# Altium schematic symbol library Audio-Streamer.SchLib: 67 symbols
Pins are listed as number, name and electrical type; pins without a type are passive.

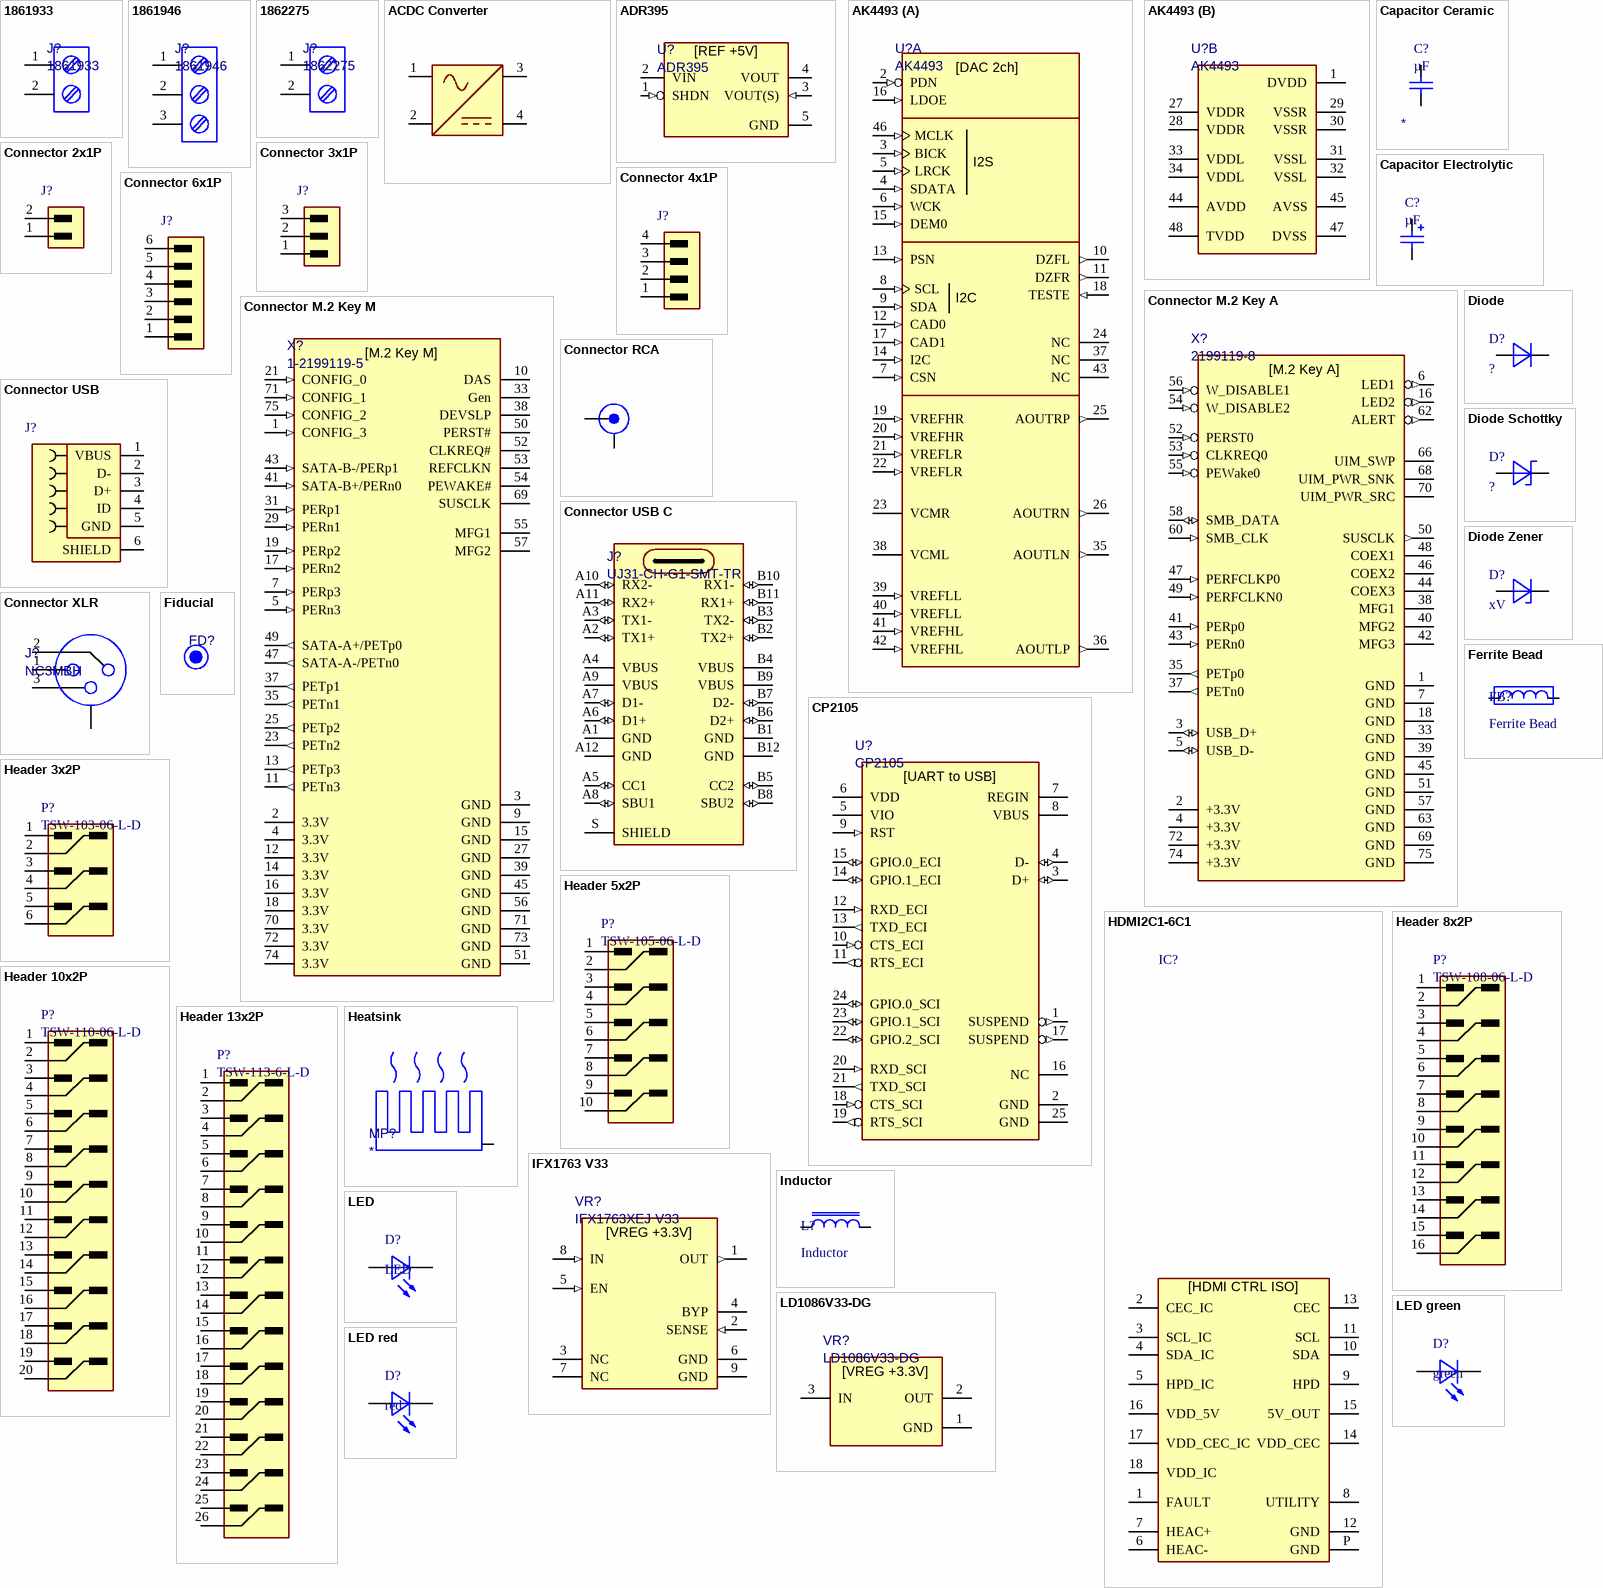
[diagram p0: symbols 1861933 to LED red]

## 1861933
designator J?
Screw Terminal, 2 Position, 5mm Spacing
footprint 1861933 (Phoenix Contacts 2 Pol)
pins: 1, 2

## 1861946
designator J?
Screw Terminal, 3 Position, 5mm Spacing
footprint 1861946 (Phoenix Contacts 3 Pol)
pins: 1, 2, 3

## 1862275
designator J?
Screw Terminal, 2 Position, 5mm Spacing
footprint 1862275 (Phoenix Contacts 2 Pol - 5mm)
pins: 1, 2

## ACDC Converter
designator U?
AC/DC Converter (100VAC - 240VAC to 5VDC)
footprint IRM-606x (AC/DC Module Meanwell)
pins: 1 AC (power), 2 AC (power), 3 V+ (power), 4 GND (power)

## ADR395
designator U?
Voltage Reference; Manufacturer Part No.: ADR395BUJZ-REEL7
footprint SOT-23-5
pins: 1 SHDN (in), 2 VIN (power), 3 VOUT(S) (in), 4 VOUT (power), 5 GND (power)
text: [REF +5V]

## AK4493
designator U?
32-Bit 2ch Audio DAC
footprint LQFP48
part A pins: 2 PDN (in), 3 BICK (in), 4 SDATA (in), 5 LRCK (in), 6 WCK (in), 7 CSN (in), 8 SCL (in), 9 SDA (in), 10 DZFL (out), 11 DZFR (out), 12 CAD0 (in), 13 PSN (in), 14 I2C (in), 15 DEM0 (in), 16 LDOE (in), 17 CAD1 (in), 18 TESTE (in), 19 VREFHR (in), 20 VREFHR (in), 21 VREFLR (in), 22 VREFLR (in), 23 VCMR (power), 24 NC, 25 AOUTRP (out), 26 AOUTRN (out), 35 AOUTLN (out), 36 AOUTLP (out), 37 NC, 38 VCML (power), 39 VREFLL (in), 40 VREFLL (in), 41 VREFHL (in), 42 VREFHL (in), 43 NC, 46 MCLK (in)
part B pins: 1 DVDD (power), 27 VDDR (power), 28 VDDR (power), 29 VSSR (power), 30 VSSR (power), 31 VSSL (power), 32 VSSL (power), 33 VDDL, 34 VDDL, 44 AVDD (power), 45 AVSS (power), 47 DVSS (power), 48 TVDD (power)
part A text: [DAC 2ch]; I2S

## Capacitor Ceramic
designator C?, comment µF
Ceramic Capacitor; Voltage: *
footprint SMD0402CAP
footprint SMD0603CAP
footprint SMD0805CAP
footprint SMD1206CAP
footprint SMD2010CAP
pins: 1, 2 q

## Capacitor Electrolytic
designator C?, comment µF
Elektrolytic Capacitor; Voltage: *
footprint CAP-5-11.5-2
footprint CAP-6.3-5.5-2.5
footprint CAP-6.3-11.2-2.5
footprint CAP-8-11.5-3.5
footprint CAP-12.5-20-5
footprint CAP-12.5-25-5
footprint CAP-25-50-12.5
pins: M q, P

## Connector 2x1P
designator J?, comment 2x1P  (value not drawn)
Connector 2x1P
footprint S02B-PASK-2 (JST PA plug right angle)
footprint B2B-PH-K-S (JST PH plug)
pins: 1, 2

## Connector 3x1P
designator J?, comment 3x1P  (value not drawn)
Connector 3x1P
footprint S03B-PASK-2 (JST PA plug right angle)
footprint B3B-PH-K-S (JST PH plug)
pins: 1, 2, 3

## Connector 4x1P
designator J?, comment 4x1P  (value not drawn)
Connector 4x1P
footprint S04B-PASK-2 (JST PA plug right angle)
footprint B4B-PH-K-S (JST PH plug)
pins: 1, 2, 3, 4

## Connector 6x1P
designator J?, comment 6x1P  (value not drawn)
Connector 6x1P
footprint S06B-PASK-2 (JST PA plug right angle)
footprint B6B-PH-K-S (JST PH plug)
pins: 1, 2, 3, 4, 5, 6

## Connector M.2 Key A
designator X?, comment 2199119-8
Connector M.2 Key A; Manufacturer Part No.: 2199119-8
footprint 2199119-8-KEY-A-2230 (M-2 Key A)
pins: 1 GND (power), 2 +3.3V (power), 3 USB_D+ (io), 4 +3.3V (power), 5 USB_D- (io), 6 LED1 (out), 7 GND (power), 16 LED2 (out), 18 GND (power), 33 GND (power), 35 PETp0 (out), 37 PETn0 (out), 38 MFG1, 39 GND (power), 40 MFG2, 41 PERp0 (in), 42 MFG3, 43 PERn0 (in), 44 COEX3, 45 GND (power), 46 COEX2, 47 PERFCLKP0 (in), 48 COEX1, 49 PERFCLKN0 (in), 50 SUSCLK (out), 51 GND (power), 52 PERST0 (in), 53 CLKREQ0 (in), 54 W_DISABLE2 (in), 55 PEWake0 (in), 56 W_DISABLE1 (in), 57 GND (power), 58 SMB_DATA (io), 60 SMB_CLK (in), 62 ALERT (out), 63 GND (power), 66 UIM_SWP, 68 UIM_PWR_SNK, 69 GND (power), 70 UIM_PWR_SRC, 72 +3.3V (power), 74 +3.3V (power), 75 GND (power)
text: [M.2 Key A]

## Connector M.2 Key M
designator X?, comment 1-2199119-5
Connector M.2 Key M; Manufacturer Part No.: 1-2199119-5
footprint 1-2199119-5-Key-M-2280 (M.2 M Key)
pins: 1 CONFIG_3 (in), 2 3.3V (power), 3 GND (power), 4 3.3V (power), 5 PERn3 (in), 7 PERp3 (in), 9 GND (power), 10 DAS, 11 PETn3 (out), 12 3.3V (power), 13 PETp3 (out), 14 3.3V (power), 15 GND (power), 16 3.3V (power), 17 PERn2 (in), 18 3.3V (power), 19 PERp2 (in), 21 CONFIG_0 (in), 23 PETn2 (out), 25 PETp2 (out), 27 GND (power), 29 PERn1 (in), 31 PERp1 (in), 33 Gen, 35 PETn1 (out), 37 PETp1 (out), 38 DEVSLP, 39 GND (power), 41 SATA-B+/PERn0 (in), 43 SATA-B-/PERp1 (in), 45 GND (power), 47 SATA-A-/PETn0 (out), 49 SATA-A+/PETp0 (out), 50 PERST#, 51 GND (power), 52 CLKREQ#, 53 REFCLKN, 54 PEWAKE#, 55 MFG1, 56 GND (power), 57 MFG2, 69 SUSCLK, 70 3.3V (power), 71 GND (power), 71 CONFIG_1 (in), 72 3.3V (power), 73 GND (power), 74 3.3V (power), 75 CONFIG_2 (in)
text: [M.2 Key M]

## Connector RCA
designator J?, comment ?
RCA Connector
footprint RCA-Plug (43-028/29 RCA Plug)
pins: 1, 2

## Connector USB
designator J?, comment 1981568-1  (value not drawn)
USB Micro Connector; Manufacturer Part No.: 1981568-1
footprint HEADER_USB
pins: 1 VBUS, 2 D-, 3 D+, 4 ID, 5 GND, 6 SHIELD

## Connector USB C
designator J?, comment UJ31-CH-G1-SMT-TR
USB Type C Jack; Manufacturer Part No.: UJ31-CH-G1-SMT-TR
footprint UJ31-CH-G1-SMT-TR (USB Type C Jack)
pins: A1 GND (power), A2 TX1+ (io), A3 TX1- (io), A4 VBUS (power), A5 CC1 (io), A6 D1+ (io), A7 D1- (io), A8 SBU1 (io), A9 VBUS (power), A10 RX2- (io), A11 RX2+ (io), A12 GND (power), B1 GND (power), B2 TX2+ (io), B3 TX2- (io), B4 VBUS (power), B5 CC2 (io), B6 D2+ (io), B7 D2- (io), B8 SBU2 (io), B9 VBUS (power), B10 RX1- (io), B11 RX1+ (io), B12 GND (power), S SHIELD (power)

## Connector XLR
designator J?, comment NC3MBH
XLR Connector Male, Panel Mount
footprint NC3MBH (XLR Connector)
pins: 0, 1, 2, 3

## CP2105
designator U?
USB to UART Bridge; Manufacturer Part No.: CP2105-F01-GMR
footprint QFN24
pins: 1 SUSPEND (out), 2 GND (power) "Ground. Must be tied to ground.", 3 D+ (io) "USB D+", 4 D- (io) "USB D-", 5 VIO (power) "I/O Supply Voltage Input.", 6 VDD (power) "Power Supply Voltage Input. Voltage Regulator Output. See Section 10.", 7 REGIN (power) "5 V Regulator Input. This pin is the input to the on-chip voltage regulator.", 8 VBUS (power) "VBUS Sense Input. This pin should be connected to the VBUS signal of a USB network.", 9 RST (in) "Device Reset. Open-drain output of internal POR or VDD monitor. An external source can initiate a system reset by driving this pin low for the time specified in Table 4.", 10 CTS_ECI (in) "Clear To Send control input (active low) for the Enhanced Comm Interface.", 11 RTS_ECI (out) "Ready to Send control output (active low) for the Enhanced Comm Interface.", 12 RXD_ECI (in) "Asynchronous data input (UART Receive) for the Enhanced Comm Interface.", 13 TXD_ECI (out) "Asynchronous data output (UART Transmit) for the Enhanced Comm Interface.", 14 GPIO.1_ECI (io), 15 GPIO.0_ECI (io), 16 NC, 17 SUSPEND (out), 18 CTS_SCI (in) "Clear To Send control input (active low) for the Standard Comm Interface.", 19 RTS_SCI (out) "Ready to Send control output (active low) for the Standard Comm Interface.", 20 RXD_SCI (in) "Asynchronous data input (UART Receive) for the Standard Comm Interface.", 21 TXD_SCI (out) "Asynchronous data output (UART Transmit) for the Standard Comm Interface.", 22 GPIO.2_SCI (io), 23 GPIO.1_SCI (io), 24 GPIO.0_SCI (io), 25 GND (power)
text: [UART to USB]

## Diode
designator D?, comment ?
Diode
pins: A, C

## Diode Schottky
designator D?, comment ?
Schottky Diode
pins: A, C

## Diode Zener
designator D?, comment xV
Zener Diode; Manufacturer Part No.: SMBJ5357B-TP
footprint DO-214AA
pins: A, C

## Ferrite Bead
designator FB?
footprint SMD0603RES
footprint SMD1206FB
pins: 1, 2
1 alternate drawing of the same symbol

## Fiducial
designator FD?  (value not drawn)  (no BOM)
Fiducial Marker
footprint FIDUCIAL

## HDMI2C1-6C1
designator IC?  (value not drawn)
HDMI ESD protection, level shifter and backdrive protection; Manufacturer Part No.: HDMI2C1-6C1
footprint QFN18
pins: 1 FAULT, 2 CEC_IC, 3 SCL_IC, 4 SDA_IC, 5 HPD_IC, 6 HEAC-, 7 HEAC+, 8 UTILITY, 9 HPD, 10 SDA, 11 SCL, 12 GND, 13 CEC, 14 VDD_CEC, 15 5V_OUT, 16 VDD_5V, 17 VDD_CEC_IC, 18 VDD_IC, P GND
text: [HDMI CTRL ISO]

## Header 3x2P
designator P?, comment TSW-103-06-L-D
Header 13x2P; Manufacturer Part No.: TSW-103-06-L-D
footprint TSW-103-06-X-D (Samtec TSW 6P)
pins: 1, 2, 3, 4, 5, 6

## Header 5x2P
designator P?, comment TSW-105-06-L-D
Header 5x2P; Manufacturer Part No.: TSW-105-06-L-D
footprint TSW-105-06-X-D (Samtec TSW 10P)
pins: 1, 2, 3, 4, 5, 6, 7, 8, 9, 10

## Header 8x2P
designator P?, comment TSW-108-06-L-D
Header 8x2P; Manufacturer Part No.: TSW-108-06-L-D
footprint TSW-108-06-X-D (Samtec TSW 16P)
pins: 1, 2, 3, 4, 5, 6, 7, 8, 9, 10, 11, 12, 13, 14, 15, 16

## Header 10x2P
designator P?, comment TSW-110-06-L-D
Header 10x2P; Manufacturer Part No.: TSW-110-06-L-D
footprint TSW-110-06-X-D (Samtec TSW 20P)
pins: 1, 2, 3, 4, 5, 6, 7, 8, 9, 10, 11, 12, 13, 14, 15, 16, 17, 18, 19, 20

## Header 13x2P
designator P?, comment TSW-113-6-L-D
Header 13x2P; Manufacturer Part No.: TSW-113-6-L-D
footprint HEADER_2x13P_HORIZONTAL (HEADER 2x13P HORIZONTAL)
footprint HEADER_2x13P_VERTICAL (HEADER 2x13P VERTICAL)
pins: 1, 2, 3, 4, 5, 6, 7, 8, 9, 10, 11, 12, 13, 14, 15, 16, 17, 18, 19, 20, 21, 22, 23, 24, 25, 26

## Heatsink
designator MP?
Heatsink
footprint FA-T220-38E (Heatsink)
footprint DA-T263-201E (SMD Heatsink Ohmite)
pins: 0

## IFX1763 V33
designator VR?, comment IFX1763XEJ V33
Linear Voltage Regulator, positive Rail
footprint SOIC8-PG (SOIC-8)
pins: 1 OUT (out), 2 SENSE (in), 3 NC, 4 BYP, 5 EN (in), 6 GND (power), 7 NC, 8 IN (in), 9 GND
text: [VREG +3.3V]

## Inductor
designator L?
pins: 1, 2
1 alternate drawing of the same symbol

## LD1086V33-DG
designator VR?
Linear Voltage Regulator, positive Rail; Manufacturer Part No.: LD1086V33-DG
footprint TO220-3
pins: 1 GND (power), 2 OUT (power), 3 IN (power)
text: [VREG +3.3V]

## LED
designator D?
footprint LED
pins: A, C

## LED green
designator D?, comment green
LED green; Manufacturer Part No.: LGM67KG1J224Z
footprint LED
pins: A, C

## LED red
designator D?, comment red
LED red; Manufacturer Part No.: LS M67K-J2L1-1-Z
footprint LED
pins: A, C

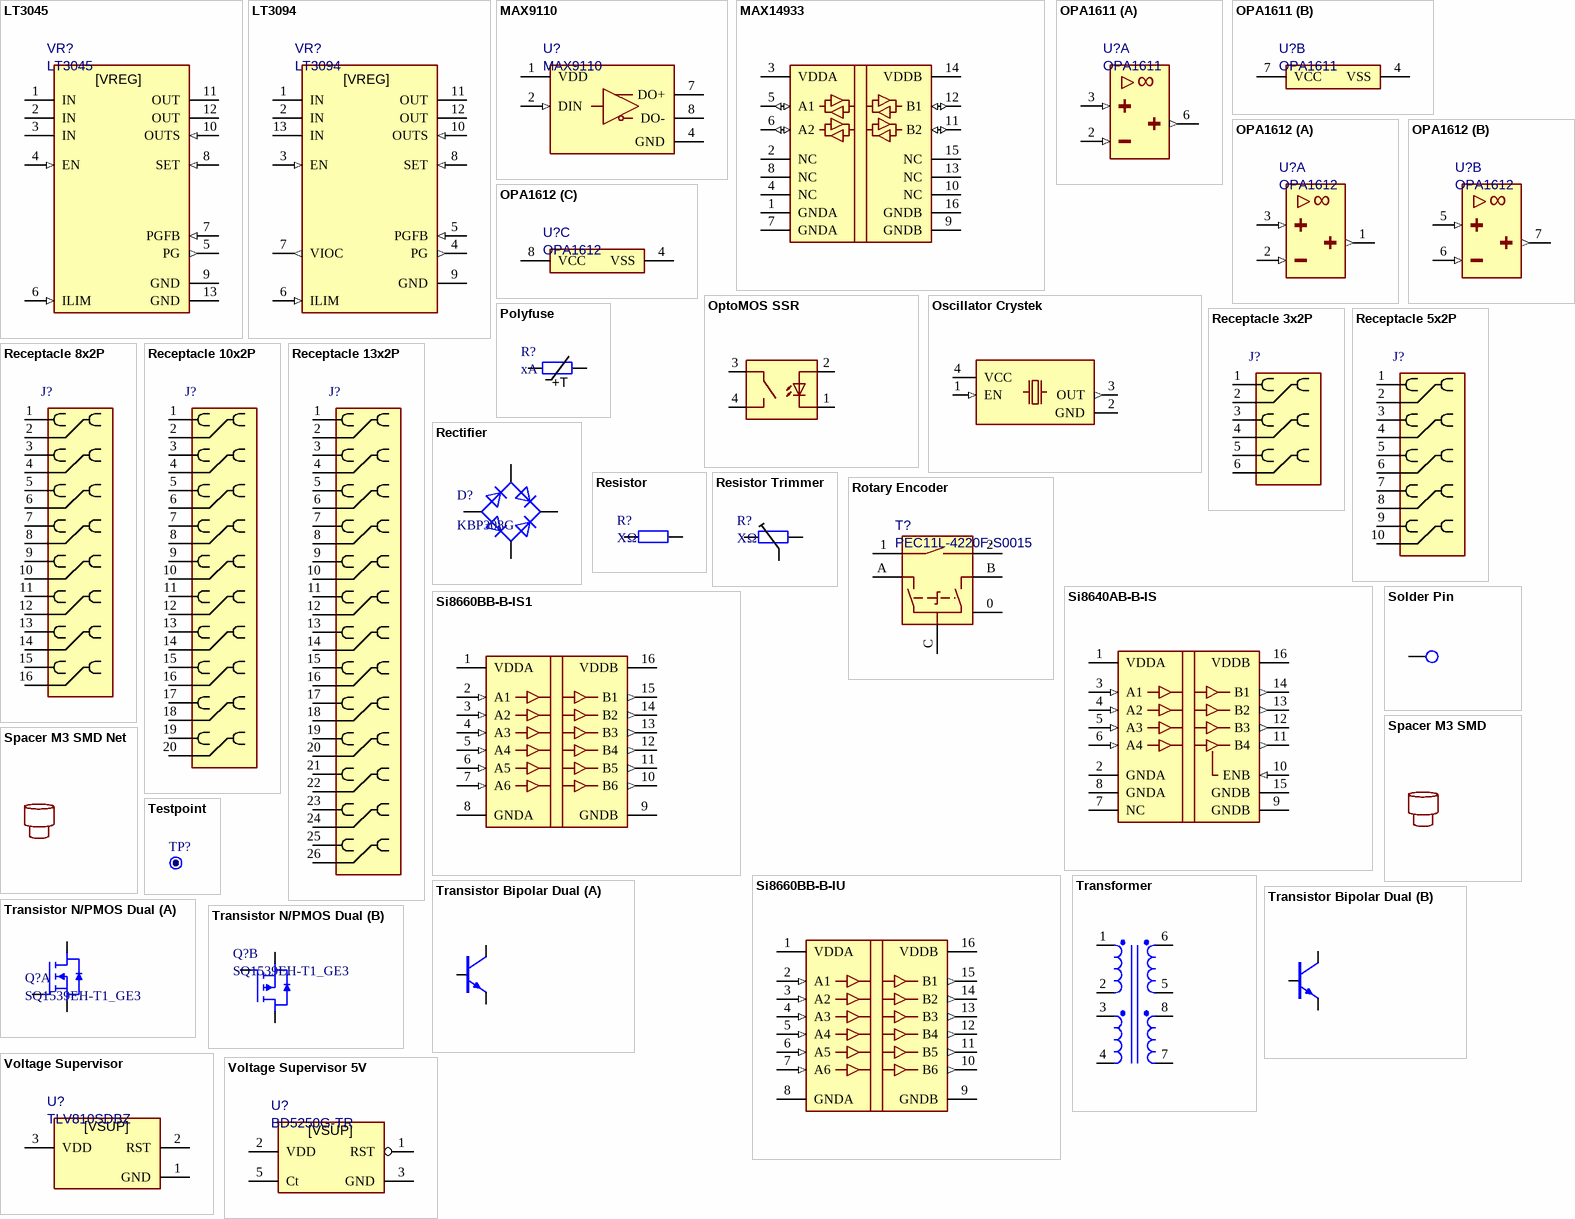
[diagram p1: symbols LT3045 to Voltage Supervisor 5V]

## LT3045
designator VR?
Linear Regulator, positive Rail, Low Noise, High PSRR; Manufacturer Part No.: LT3045EMSE#PBF
footprint MSOP12
pins: 1 IN (power), 2 IN (power), 3 IN (power), 4 EN (in), 5 PG (out), 6 ILIM (in), 7 PGFB (in), 8 SET (in), 9 GND (power), 10 OUTS (in), 11 OUT (power), 12 OUT (power), 13 GND (power)
text: [VREG]

## LT3094
designator VR?
Linear Regulator, negative Rail Low Noise, High PSRR; Manufacturer Part No.: LT3094EMSE#PBF
footprint MSOP12
pins: 1 IN (power), 2 IN (power), 3 EN (in), 4 PG (out), 5 PGFB (in), 6 ILIM (in), 7 VIOC (out), 8 SET (in), 9 GND (power), 10 OUTS (in), 11 OUT (power), 12 OUT (power), 13 IN (power)
text: [VREG]

## MAX9110
designator U?
LVDS Transmitter; Manufacturer Part No.: MAX9110ESA+
footprint SOIC8 (SOIC-8)
pins: 1 VDD (power), 2 DIN (in), 4 GND (power), 7 DO+, 8 DO-

## MAX14933
designator U?
Bidirectional digital isolator; Manufacturer Part No.: MAX14933ASE+
footprint SOIC16WIDE (SOIC-8 208mil)
footprint SOIC16 (SOIC-16 NARROW)
pins: 1 GNDA (power), 2 NC, 3 VDDA (power), 4 NC, 5 A1 (io), 6 A2 (io), 7 GNDA (power), 8 NC, 9 GNDB (power), 10 NC, 11 B2 (io), 12 B1 (io), 13 NC, 14 VDDB (power), 15 NC, 16 GNDB (power)

## OPA1611
designator U?
SoundPlus Operational Amplifier; Manufacturer Part No.: OPA1611
footprint SOIC8 (SOIC-8)
footprint DIP8-SOIC8 (DIP-8 / SOIC-8)
part A pins: 2 NIN (in), 3 PIN (in), 6 OUT (out)
part B pins: 4 VSS (power), 7 VCC (power)
1 alternate drawing of the same symbol
part A text: ∞

## OPA1612
designator U?
SoundPlus Operational Amplifier; Manufacturer Part No.: OPA1612
footprint SOIC8 (SOIC-8)
part A pins: 1 OUTA (out), 2 NINA (in), 3 PINA (in)
part B pins: 5 PINB (in), 6 NINB (in), 7 OUTB (out)
part C pins: 4 VSS (power), 8 VCC (power)
part A text: ∞
part B text: ∞

## OptoMOS SSR
designator U?, comment CPC1926Y
OptoMOS Solid State Relay
footprint CPC1926Y (OptoMOS SSR)
pins: 1, 2, 3, 4

## Oscillator Crystek
designator Y?, comment *MHZ
HCMOS Oscillator
footprint OSC_CRYSTEK
pins: 1 EN (in), 2 GND (power), 3 OUT (out), 4 VCC (power)

## Polyfuse
designator R?, comment xA
Polyfuse; Manufacturer Part No.: 0ZCF0100AF2A
footprint SMD0402RES
footprint SMD0603RES
footprint SMD1206RES
footprint SMD0805RES
footprint SMD2010RES
footprint SMD2920FUSE
pins: 1, 2
text: +T

## Receptacle 3x2P
designator J?, comment HLE-103-02-L-DV  (value not drawn)
Receptacle 3x2P; Manufacturer Part No.: HLE-103-02-L-DV
footprint HLE-103-02-XXX-DV (Samtec HLE 6P)
pins: 1, 2, 3, 4, 5, 6

## Receptacle 5x2P
designator J?, comment HLE-105-02-G-DV  (value not drawn)
Receptacle 5x2P; Manufacturer Part No.: HLE-105-02-G-DV
footprint HLE-105-02-XXX-DV-A (Samtec HLE 20P)
pins: 1, 2, 3, 4, 5, 6, 7, 8, 9, 10

## Receptacle 8x2P
designator J?, comment HLE-108-02-L-DV  (value not drawn)
Receptacle 5x2P; Manufacturer Part No.: HLE-108-02-L-DV
footprint HLE-108-02-XXX-DV-A (Samtec HLE 16P)
pins: 1, 2, 3, 4, 5, 6, 7, 8, 9, 10, 11, 12, 13, 14, 15, 16

## Receptacle 10x2P
designator J?, comment HLE-110-02-L-DV  (value not drawn)
Receptacle 10x2P; Manufacturer Part No.: HLE-110-02-L-DV
footprint HLE-110-02-XXX-DV-A (Footprint not found)
pins: 1, 2, 3, 4, 5, 6, 7, 8, 9, 10, 11, 12, 13, 14, 15, 16, 17, 18, 19, 20

## Receptacle 13x2P
designator J?, comment HLE-113-02-L-DV-A  (value not drawn)
Receptacle 13x2P; Manufacturer Part No.: HLE-113-02-L-DV-A
footprint JACK_2x13P
footprint HLE-113-02-XXX-DV-A-BE (Samtec HLE 26P Bottom Entry)
footprint HLE-113-02-XXX-DV-A (Samtec HLE 26P)
pins: 1, 2, 3, 4, 5, 6, 7, 8, 9, 10, 11, 12, 13, 14, 15, 16, 17, 18, 19, 20, 21, 22, 23, 24, 25, 26

## Rectifier
designator D?, comment KBP308G
Full Bridge Rectifier
footprint KBP30 (Full Bridge Rectifier)
footprint SLDBS-4 (Full Bridge Rectifier)
pins: 1, 2, 3, 4

## Resistor
designator R?, comment XΩ
Resistor
footprint SMD0402RES
footprint SMD0603RES
footprint SMD1206RES
footprint SMD0805RES
footprint SMD2010RES
pins: 1, 2

## Resistor Trimmer
designator R?, comment XΩ
Trimmer (resistive)
footprint 3266 (Bourns Trimpot)
pins: 1, 2, 3

## Rotary Encoder
designator T?, comment PEC11L-4220F-S0015
Rotary Encoder with button; Manufacturer Part No.: PEC11L-4220F-S0015
footprint PEC11L-4220F-S0015 (Rotary Encoder)
pins: 0, 1, 2, A, B, C

## Si8640AB-B-IS
designator U?
Unidirectional digital isolator, 4 channel; Manufacturer Part No.: Si8640AB-B-IS
footprint SOIC16WIDE (SOIC-8 208mil)
pins: 1 VDDA (power), 2 GNDA (power), 3 A1 (in), 4 A2 (in), 5 A3 (in), 6 A4 (in), 7 NC (power), 8 GNDA (power), 9 GNDB (power), 10 ENB (in), 11 B4 (out), 12 B3 (out), 13 B2 (out), 14 B1 (out), 15 GNDB (power), 16 VDDB (power)

## Si8660BB-B-IS1
designator U?
Unidirectional digital isolator; Manufacturer Part No.: Si8660BB-B-IS1
footprint SOIC16 (SOIC-8 208mil)
pins: 1 VDDA (power), 2 A1 (in), 3 A2 (in), 4 A3 (in), 5 A4 (in), 6 A5 (in), 7 A6 (in), 8 GNDA (power), 9 GNDB (power), 10 B6 (out), 11 B5 (out), 12 B4 (out), 13 B3 (out), 14 B2 (out), 15 B1 (out), 16 VDDB (power)

## Si8660BB-B-IU
designator U?
Unidirectional digital isolator
footprint SOIC16WIDE (SOIC-8 208mil)
pins: 1 VDDA (power), 2 A1 (in), 3 A2 (in), 4 A3 (in), 5 A4 (in), 6 A5 (in), 7 A6 (in), 8 GNDA (power), 9 GNDB (power), 10 B6 (out), 11 B5 (out), 12 B4 (out), 13 B3 (out), 14 B2 (out), 15 B1 (out), 16 VDDB (power)

## Solder Pin
designator J?  (net tie, no BOM)
Solder Pin
footprint SOLDER_PIN (Solder Pin)
pins: 1

## Spacer M3 SMD
designator MP?, comment 97740xx360R
Spacer M3 SMD; Manufacturer Part No.: *

## Spacer M3 SMD Net
designator MP?, comment 97740xx360R
Spacer M3 SMD; Manufacturer Part No.: *
footprint 9774070360 (WE M3 SMD Spacer)
pins: 1

## Testpoint
designator TP?  (value not drawn)  (no BOM)
footprint TP
pins: 1

## Transformer
designator T?, comment L01-6363
Transformer
footprint L01-6364 (Transformer Amgis)
pins: 1, 2, 3, 4, 5, 6, 7, 8

## Transistor Bipolar Dual
designator Q?, comment PMBT3904VS,115
Transistor Bipolar Dual; Manufacturer Part No.: PMBT3904VS,115
footprint SOT-666
part A pins: 1, 2 "gate", 6
part B pins: 3, 4, 5 "gate"

## Transistor N/PMOS Dual
designator Q?, comment SQ1539EH-T1_GE3
Transistor Dual, NMOS & PMOS; Manufacturer Part No.: SQ1539EH-T1_GE3
footprint SOT-363-6
part A pins: 1 S "source", 2 G "gate", 6 D "mounting base; connected to drain"
part B pins: 3 D "mounting base; connected to drain", 4 S "source", 5 G "gate"

## Voltage Supervisor
designator U?, comment TLV810SDBZ
Voltage Supervisor, Threshold 2.94V; Manufacturer Part No.: TLV810SDBZR
footprint SOT-23
pins: 1 GND, 2 RST, 3 VDD
text: [VSUP]

## Voltage Supervisor 5V
designator U?, comment BD5250G-TR
Voltage Supervisor, Threshold 5V; Manufacturer Part No.: BD5250G-TR
footprint SOT-23-5
pins: 1 RST (oc), 2 VDD, 3 GND, 5 Ct
text: [VSUP]